# Altium footprint library USBSerialModules.PcbLib: 1 footprints
Each footprint in its own frame and in the unit in brackets; x right, y up, seen from the top. Pads: shape width x height; smd on the part's side, far side on the other; paste and mask are expansions set on the pad; w line width, h text height; cw(c..) or ccw(c..) is an arc to the next point about the centre after c.
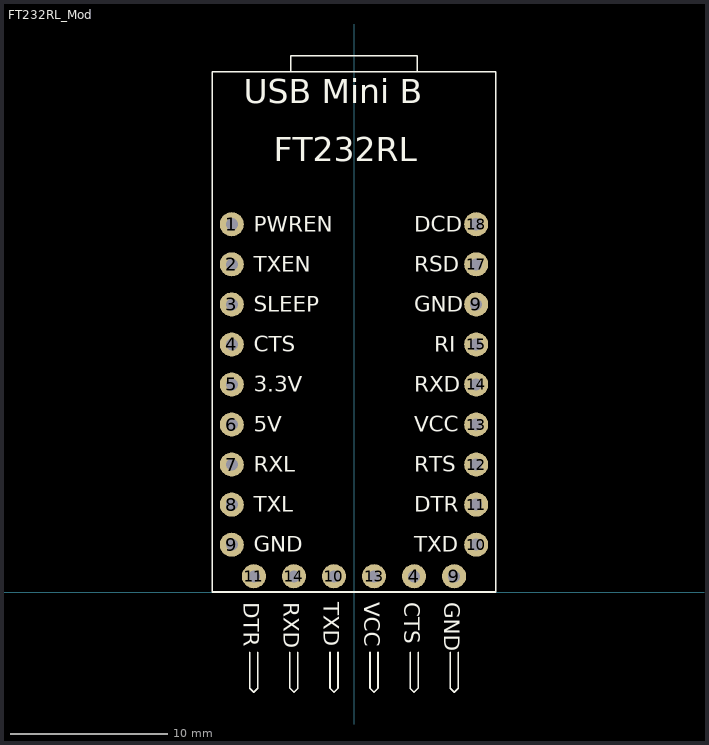
[diagram p0: the footprint, top view; thin cyan lines are the x and y axes]

## FT232RL_Mod [mil] "FT232RL USB to Serial Module"
height 787.4
pads (24):
  round 60 hole 30: 1(-305.12,918.11) 2(-305.12,818.11) 3(-305.12,718.11) 4(-305.12,618.11) 4(150,39.37) 5(-305.12,518.11) 6(-305.12,418.11) 7(-305.12,318.11) 8(-305.12,218.11) 9(-305.12,118.11) 9(250,39.37) 9(305.12,718.11) 10(-50,39.37) 10(305.12,118.11) 11(-250,39.37) 11(305.12,218.11) 12(305.12,318.11) 13(50,39.37) 13(305.12,418.11) 14(-150,39.37) 14(305.12,518.11) 15(305.12,618.11) 17(305.12,818.11) 18(305.12,918.11)
Top Overlay:
  lines w3.94: -260,-150 -260,-240 -250,-250 -240,-240 -240,-150 ; -160,-150 -160,-240 -150,-250 -140,-240 -140,-150 ; -157.48,1299.21 -157.48,1338.58 157.48,1338.58 157.48,1299.21 ; -60,-150 -60,-240 -50,-250 -40,-240 -40,-150 ; 40,-150 40,-240 50,-250 60,-240 60,-150 ; 140,-150 140,-240 150,-250 160,-240 160,-150 ; 240,-150 240,-240 250,-250 260,-240 260,-150 ; -354.33,0 354.33,0 354.33,1299.21 -354.33,1299.21 -354.33,0
  text "GND" at 225,-25 h39.37
  text "CTS" at 125,-25 h39.37
  text "VCC" at 25,-25 h39.37
  text "TXD" at -75,-25 h39.37
  text "RXD" at -175,-25 h39.37
  text "DTR" at -275,-25 h39.37
  text "GND" at 150,700 h39.37
  text "RSD" at 150,800 h39.37
  text "DCD" at 150,900 h39.37
  text "GND" at -250,100 h39.37
  text "TXL" at -250,200 h39.37
  text "RXL" at -250,300 h39.37
  text "5V" at -250,400 h39.37
  text "3.3V" at -250,500 h39.37
  text "CTS" at -250,600 h39.37
  text "SLEEP" at -250,700 h39.37
  text "TXEN" at -250,800 h39.37
  text "PWREN" at -250,900 h39.37
  text "USB Mini B" at -275.59,1220.47 h60
  text "RI" at 200,600 h39.37
  text "RXD" at 150,500 h39.37
  text "VCC" at 150,400 h39.37
  text "RTS" at 150,300 h39.37
  text "DTR" at 150,200 h39.37
  text "TXD" at 150,100 h39.37
  text "FT232RL" at -200,1075 h60